# EAGLE library part SFV20R-2STE1HLF (library FPC FFC Connectors)
CONN FFC TOP 20POS 0.50MM R/A Manufacturer's datasheet <https://cdn.amphenol-icc.com/media/wysiwyg/files/drawing/10112793.pdf>
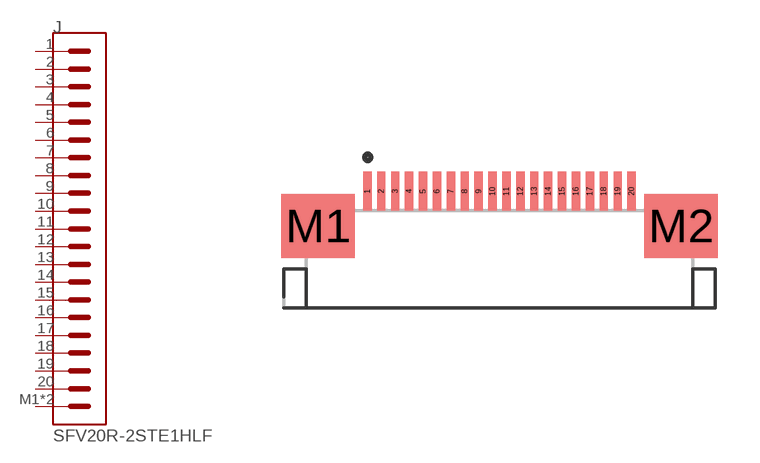
[diagram p8: symbol with the pads of SFV20R-2STE1HLF; footprint SFV20R-2STE1HLF]

Designator prefix J

## SFV20R-2STE1HLF (CRAETED_BY: PCBLayout.com; DIGIKEY_PARTNO: 609-4317-2-ND; MANUFACTURER: Amphenol ICC (FCI); MPN: SFV20R-2STE1HLF)  [SFV20R-2STE1HLF]
1  1  pas
2  2  pas
3  3  pas
4  4  pas
5  5  pas
6  6  pas
7  7  pas
8  8  pas
9  9  pas
10  10  pas
11  11  pas
12  12  pas
13  13  pas
14  14  pas
15  15  pas
16  16  pas
17  17  pas
18  18  pas
19  19  pas
20  20  pas
M1  SHIELD  pwr
M2  SHIELD  pwr

## Footprint SFV20R-2STE1HLF (pad centres in mm)
smd 0.3 x 1.4: 1 -4.75,0; 2 -4.25,0; 3 -3.75,0; 4 -3.25,0; 5 -2.75,0; 6 -2.25,0; 7 -1.75,0; 8 -1.25,0; 9 -0.75,0; 10 -0.25,0; 11 0.25,0; 12 0.75,0; 13 1.25,0; 14 1.75,0; 15 2.25,0; 16 2.75,0; 17 3.25,0; 18 3.75,0; 19 4.25,0; 20 4.75,0
smd 2.65 x 2.3: M1 -6.525,-1.25; M2 6.525,-1.25